# Altium footprint library RCL.PcbLib: 86 footprints (part 4 of 6)
Each footprint in its own frame and in the unit in brackets; x right, y up, seen from the top. Pads: shape width x height; smd on the part's side, far side on the other; paste and mask are expansions set on the pad; w line width, h text height; cw(c..) or ccw(c..) is an arc to the next point about the centre after c.
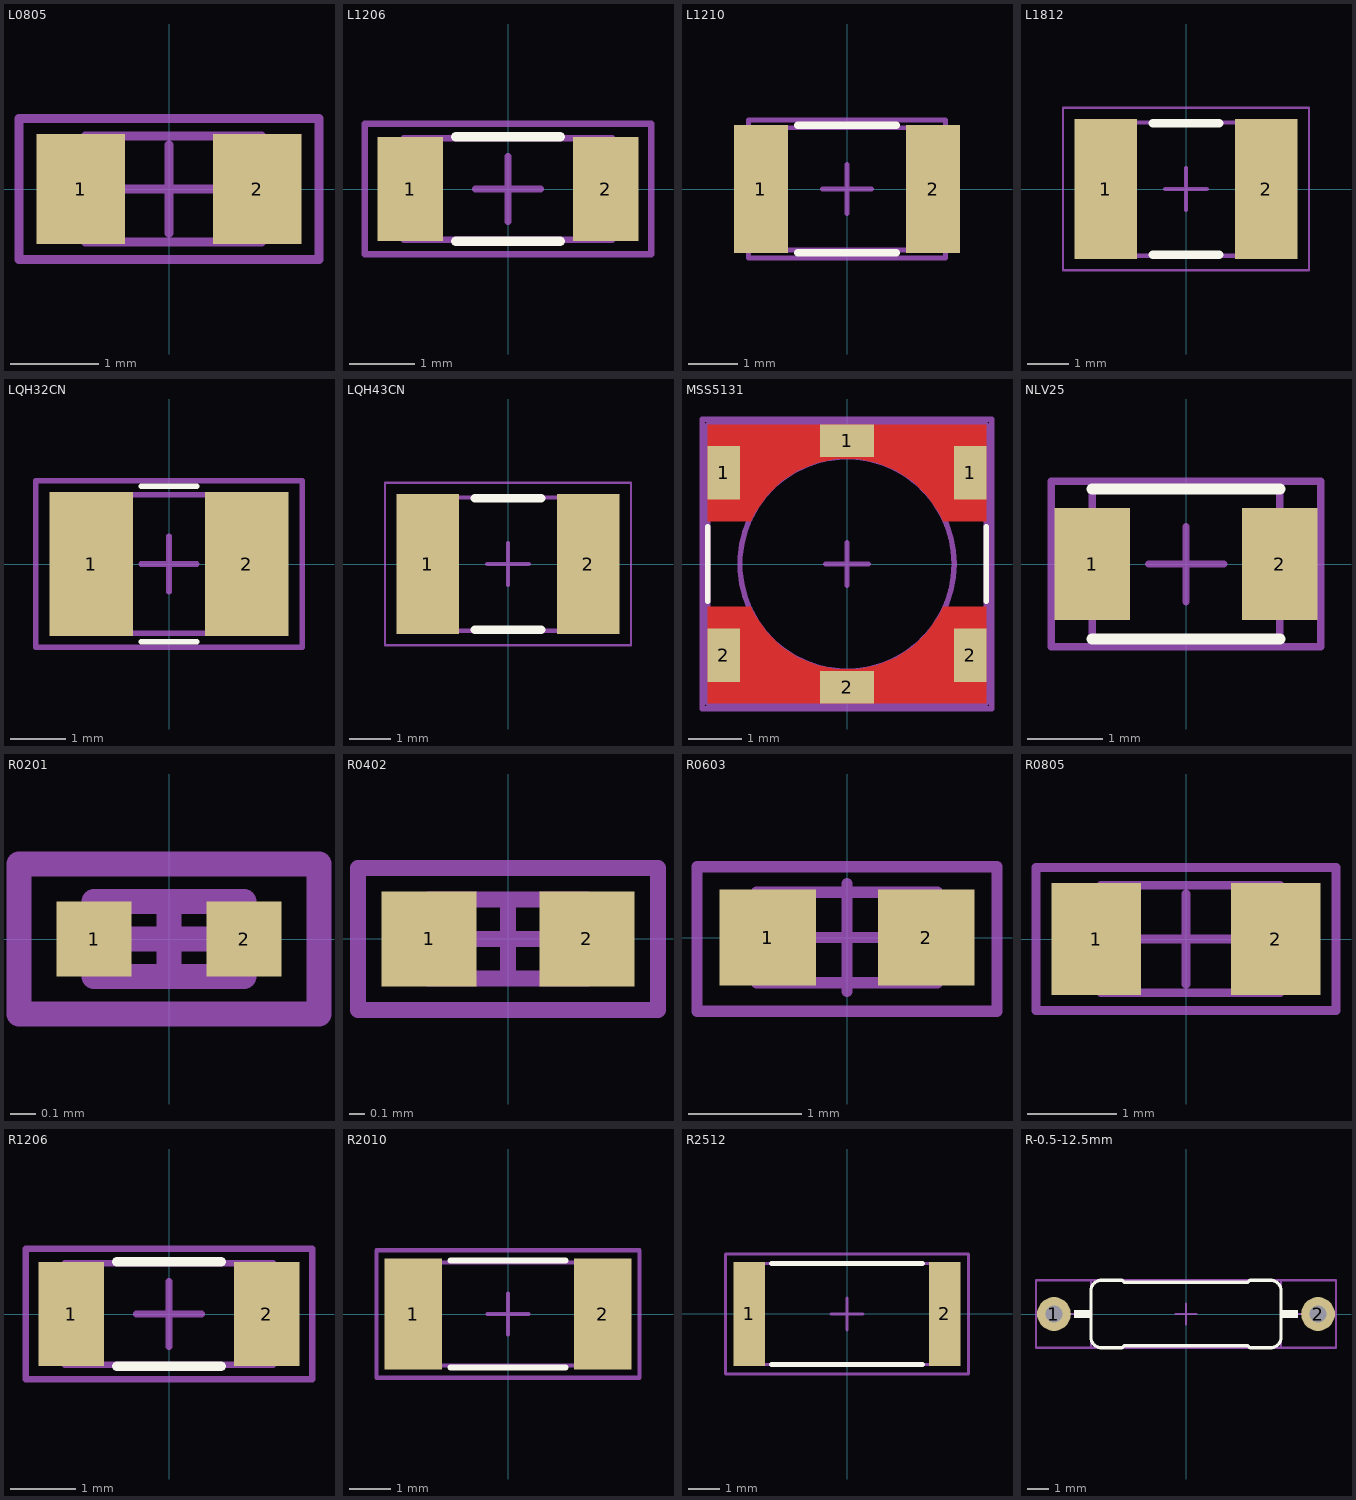
[diagram p3: the footprints below, top view; thin cyan lines are the x and y axes]

## L0805 [mm]
height 0.45
pads (2):
  rect 1x1.25 smd: 1(-1,0) 2(1,0)
Top Assembly (Mech3):
  lines w0.1: -0.949,-0.6 1.05,-0.6 1.05,0.6 -0.949,0.6 -0.949,-0.6
Top Courtyard:
  lines w0.1: -0.5,0 0.5,0 ; 0,-0.5 0,0.5 ; -1.7,-0.8 -1.7,0.8 1.7,0.8 1.7,-0.8 -1.7,-0.8
3D body "SW3dPS-0805 SMD Capacitor.STEP": height 0.78, standoff 0, extent -1,-0.625 1,0.625

## L1206 [mm]
height 0.6
pads (2):
  rect 1x1.6 smd: 1(-1.5,0) 2(1.5,0)
Top Overlay:
  lines w0.15: -0.8,-0.8 0.8,-0.8 ; -0.8,0.8 0.8,0.8
Top Assembly (Mech3):
  lines w0.1: -1.6,-0.775 1.6,-0.775 1.6,0.775 -1.6,0.775 -1.6,-0.775
Top Courtyard:
  lines w0.1: -0.5,0 0.5,0 ; 0,-0.5 0,0.5 ; -2.2,-1 -2.2,1 2.2,1 2.2,-1 -2.2,-1
3D body "SW3dPS-1206 SMD Capacitor.STEP": height 1, standoff 0, extent -1.6,-0.8 1.6,0.8

## L1210 [mm]
height 2.5
pads (2):
  rect 1.1x2.6 smd: 1(-1.75,0) 2(1.75,0)
Top Overlay:
  lines w0.15: -1,-1.3 1,-1.3 ; -1,1.3 1,1.3
Top Assembly (Mech3):
  lines w0.1: -2,-1.244 -2,1.245 2,1.245 2,-1.244 -2,-1.244
Top Courtyard:
  lines w0.1: -0.5,0 0.5,0 ; 0,-0.5 0,0.5 ; -2,-1.4 2,-1.4 2,1.4 -2,1.4 -2,-1.4
3D body "User Library-1210(3225M) Cap.STEP": height 1.7, standoff 0, extent -2,-1.245 2,1.245

## L1812 [mm]
height 1.4
pads (2):
  rect 1.5x3.35 smd: 1(-1.925,0) 2(1.925,0)
Top Overlay:
  lines w0.2: -0.8,-1.575 0.8,-1.575 ; -0.8,1.575 0.8,1.575
Top Assembly (Mech3):
  lines w0.1: -2.25,-1.6 -2.25,1.6 2.25,1.6 2.25,-1.6 -2.25,-1.6
Top Courtyard:
  lines w0.05: -2.95,-1.95 -2.95,1.95 2.95,1.95 2.95,-1.95 -2.95,-1.95
  lines w0.1: -0.5,0 0.5,0 ; 0,-0.5 0,0.5
3D body "SW3dPS-1812 SMD Capacitor.STEP": height 1.6, standoff 0, extent -2.25,-1.6 2.25,1.6

## LQH32CN [mm] "muRata chip inductor"
height 2.5
pads (2):
  rect 1.5x2.6 smd: 1(-1.4,0) 2(1.4,0)
Top Overlay:
  lines w0.1: -0.5,-1.4 0.5,-1.4 ; -0.5,1.4 0.5,1.4
Top Assembly (Mech3):
  lines w0.1: -2,-1.244 -2,1.245 2,1.245 2,-1.244 -2,-1.244
Top Courtyard:
  lines w0.1: -0.5,0 0.5,0 ; 0,-0.5 0,0.5 ; -2.4,-1.5 2.4,-1.5 2.4,1.5 -2.4,1.5 -2.4,-1.5
3D body "User Library-LQH32PN_sw.STEP": height 1.55, standoff 0, extent -1.6,-1.25 1.6,1.25

## LQH43CN [mm] "muRata chip inductor"
height 1.4
pads (2):
  rect 1.5x3.35 smd: 1(-1.925,0) 2(1.925,0)
Top Overlay:
  lines w0.2: -0.8,-1.575 0.8,-1.575 ; -0.8,1.575 0.8,1.575
Top Assembly (Mech3):
  lines w0.1: -2.25,-1.6 2.25,-1.6 2.25,1.6 -2.25,1.6 -2.25,-1.6
Top Courtyard:
  lines w0.05: -2.95,-1.95 2.95,-1.95 2.95,1.95 -2.95,1.95 -2.95,-1.95
  lines w0.1: -0.5,0 0.5,0 ; 0,-0.5 0,0.5
3D body "User Library-L1812.STEP": height 2.75, standoff 0, extent -2.4,-1.7 2.4,1.7

## MSS5131 [mm] "Coilcraft shielded inductor"
height 3.1
pads (6):
  rect 0.6x1 smd paste-10 mask+0: 1(-2.3,1.7) 1(2.3,1.7) 2(-2.3,-1.7) 2(2.3,-1.7)
  rect 1x0.6 smd paste-10 mask+0: 1(0,2.3) 2(0,-2.3)
Top Layer:
  region: 2.6,-0.8 2.6,-2.6 -2.6,-2.6 -2.6,-0.8 -1.8,-0.8 -1.715,-0.969 -1.498,-1.279 -1.227,-1.541 -0.91,-1.747 -0.56,-1.889 -0.189,-1.961 0.189,-1.961 0.56,-1.889 0.91,-1.747 1.227,-1.541 1.498,-1.279 1.715,-0.969 1.8,-0.8
  region: -2.6,0.8 -2.6,2.6 2.6,2.6 2.6,0.8 1.8,0.8 1.715,0.969 1.498,1.279 1.227,1.541 0.91,1.747 0.56,1.889 0.189,1.961 -0.189,1.961 -0.56,1.889 -0.91,1.747 -1.227,1.541 -1.498,1.279 -1.715,0.969 -1.8,0.8
Top Overlay:
  lines w0.1: -2.6,-0.7 -2.6,0.7 ; 2.6,-0.7 2.6,0.7
Top Assembly (Mech3):
  circle w0.1: c0,0 r2
  lines w0.1: -2.6,-2.6 -2.6,2.6 2.6,2.6 2.6,-2.6 -2.6,-2.6
Top Courtyard:
  lines w0.1: -0.4,0 0,0 ; 0,-0.4 0,0 ; 0,0.4 0,0 ; 0.4,0 0,0 ; -2.7,-2.7 2.7,-2.7 2.7,2.7 -2.7,2.7 -2.7,-2.7
3D body "Coilcraft-MSS5131.STEP": height 3.1, standoff 0, extent -2.698,-2.698 2.699,2.699

## NLV25 [mm] "Inductor 2.0x2.5x1.8 (1008)"
height 1.8
pads (2):
  rect 1x1.5 smd: 1(-1.25,0) 2(1.25,0)
Top Overlay:
  lines w0.15: -1.25,-1 1.25,-1 ; -1.25,1 1.25,1
Top Assembly (Mech3):
  lines w0.1: -1.25,-1 -1.25,1 1.25,1 1.25,-1 -1.25,-1
Top Courtyard:
  lines w0.1: -0.5,0 0.5,0 ; 0,-0.5 0,0.5 ; -1.8,-1.1 1.8,-1.1 1.8,1.1 -1.8,1.1 -1.8,-1.1
3D body "NLV25T-1R0J-EF.STEP": height 1.9, standoff 0, extent -1.25,-1 1.25,1

## R0201 [mm]
height 0.23
pads (2):
  rect 0.3x0.3 smd: 1(-0.3,0) 2(0.3,0)
Top Assembly (Mech3):
  lines w0.1: -0.3,-0.15 0.3,-0.15 0.3,0.15 -0.3,0.15 -0.3,-0.15
Top Courtyard:
  lines w0.1: -0.15,0 0.15,0 ; 0,-0.15 0,0.15 ; -0.6,-0.3 0.6,-0.3 0.6,0.3 -0.6,0.3 -0.6,-0.3
3D body "chip_0201_r.STEP": height 0.22, standoff -0.02, extent -0.3,-0.15 0.3,0.15

## R0402 [mm]
height 0.35
pads (2):
  rect 0.6x0.6 smd: 1(-0.5,0) 2(0.5,0)
Top Assembly (Mech3):
  lines w0.1: -0.5,-0.25 0.5,-0.25 0.5,0.25 -0.5,0.25 -0.5,-0.25
Top Courtyard:
  lines w0.1: -0.25,0 0.25,0 ; 0,-0.25 0,0.25 ; -0.95,-0.45 0.95,-0.45 0.95,0.45 -0.95,0.45 -0.95,-0.45
3D body "chip_0402_r.STEP": height 0.34, standoff -0.02, extent -0.525,-0.25 0.475,0.25

## R0603 [mm]
height 0.45
pads (2):
  rect 0.85x0.85 smd: 1(-0.7,0) 2(0.7,0)
Top Assembly (Mech3):
  lines w0.1: -0.8,-0.4 -0.8,0.4 0.8,0.4 0.8,-0.4 -0.8,-0.4
Top Courtyard:
  lines w0.1: -0.475,0 0.475,0 ; 0,-0.475 0,0.475 ; -1.325,-0.65 1.325,-0.65 1.325,0.625 -1.325,0.625 -1.325,-0.65
3D body "chip_0603_r.STEP": height 0.44, standoff -0.02, extent -0.8,-0.4 0.8,0.4

## R0805 [mm]
height 0.45
pads (2):
  rect 1x1.25 smd: 1(-1,0) 2(1,0)
Top Assembly (Mech3):
  lines w0.1: -0.949,-0.6 1.05,-0.6 1.05,0.6 -0.949,0.6 -0.949,-0.6
Top Courtyard:
  lines w0.1: -0.5,0 0.5,0 ; 0,-0.5 0,0.5 ; -1.675,-0.8 -1.675,0.8 1.675,0.8 1.675,-0.8 -1.675,-0.8
3D body "chip_0805_r.STEP": height 0.44, standoff -0.02, extent -1,-0.6 1,0.6

## R1206 [mm]
height 0.6
pads (2):
  rect 1x1.6 smd: 1(-1.5,0) 2(1.5,0)
Top Overlay:
  lines w0.15: -0.8,-0.8 0.8,-0.8 ; -0.8,0.8 0.8,0.8
Top Assembly (Mech3):
  lines w0.1: -1.6,-0.775 1.6,-0.775 1.6,0.775 -1.6,0.775 -1.6,-0.775
Top Courtyard:
  lines w0.1: -0.5,0 0.5,0 ; 0,-0.5 0,0.5 ; -2.2,-1 -2.2,1 2.2,1 2.2,-1 -2.2,-1
3D body "chip_1206_r.STEP": height 0.47, standoff -0.03, extent -1.65,-0.8 1.55,0.8

## R2010 [mm]
height 0.55
pads (2):
  rect 1.4x2.7 smd: 1(-2.3,0) 2(2.3,0)
Top Overlay:
  lines w0.15: -1.4,-1.3 1.4,-1.3 ; -1.4,1.3 1.4,1.3
Top Assembly (Mech3):
  lines w0.1: -2.5,-1.25 -2.5,1.25 2.5,1.25 2.5,-1.25 -2.5,-1.25
Top Courtyard:
  lines w0.1: -0.5,0 0.5,0 ; 0,-0.5 0,0.5 ; -3.2,-1.55 -3.2,1.55 3.2,1.55 3.2,-1.55 -3.2,-1.55
3D body "User Library-R_2010.STEP": height 0.6, standoff 0, extent -2.5,-1.25 2.5,1.25

## R2512 [mm]
height 0.55
pads (2):
  rect 1x3.3 smd: 1(-3.1,0) 2(3.1,0)
Top Overlay:
  lines w0.15: -2.4,-1.6 2.4,-1.6 ; -2.4,1.6 2.4,1.6
Top Assembly (Mech3):
  lines w0.1: -3.175,-1.6 -3.175,1.6 3.175,1.6 3.175,-1.6 -3.175,-1.6
Top Courtyard:
  lines w0.1: -0.5,0 0.5,0 ; 0,-0.5 0,0.5 ; -3.85,-1.9 3.85,-1.9 3.85,1.9 -3.85,1.9 -3.85,-1.9
3D body "chip_2512_r.STEP": height 0.52, standoff -0.04, extent -3.175,-1.6 3.175,1.6

## R-0.5-12.5mm [mm] "Resistor 0,5W horizontal pitch 12.5 mm"
height 5
pads (2):
  round 1.6 hole 0.8: 1(-6.25,0) 2(6.25,0)
Top Overlay:
  region: 5.3,0.2 4.5,0.2 4.5,-0.2 5.3,-0.2
  rectangle: -5.3,-0.2 -4.5,0.2
  lines w0.15: -4.5,-1.1 ccw(c-4,-1.1) -4,-1.6 -3.025,-1.6 -2.925,-1.5 0,-1.5 2.925,-1.5 3.025,-1.6 4,-1.6 ccw(c4,-1.1) 4.5,-1.1 4.5,0 4.5,1.1 ccw(c4,1.1) 4,1.6 3.025,1.6 2.925,1.5 0,1.5 -2.925,1.5 -3.025,1.6 -4,1.6 ccw(c-4,1.1) -4.5,1.1 -4.5,0 -4.5,-1.1
Top Assembly (Mech3):
  lines w0.1: -6.25,0 -4.5,0 ; 4.5,0 6.25,0 ; -4.5,-1.6 4.5,-1.6 4.5,1.6 -4.5,1.6 -4.5,-1.6
Top Courtyard:
  lines w0.1: -0.5,0 0.5,0 ; 0,-0.5 0,0.5 ; -7.1,-1.6 -7.1,1.6 7.1,1.6 7.1,-1.6 -7.1,-1.6
3D body "R_0,5W__D3,2__L9__Pitch-12,5__Spacing-0_begie.stp": height 4.1, standoff -2.7, extent -6.55,-1.6 6.55,1.6